# Altium schematic symbol library CONN_jk.SchLib: 44 symbols
Pins are listed as number, name and electrical type; pins without a type are passive.

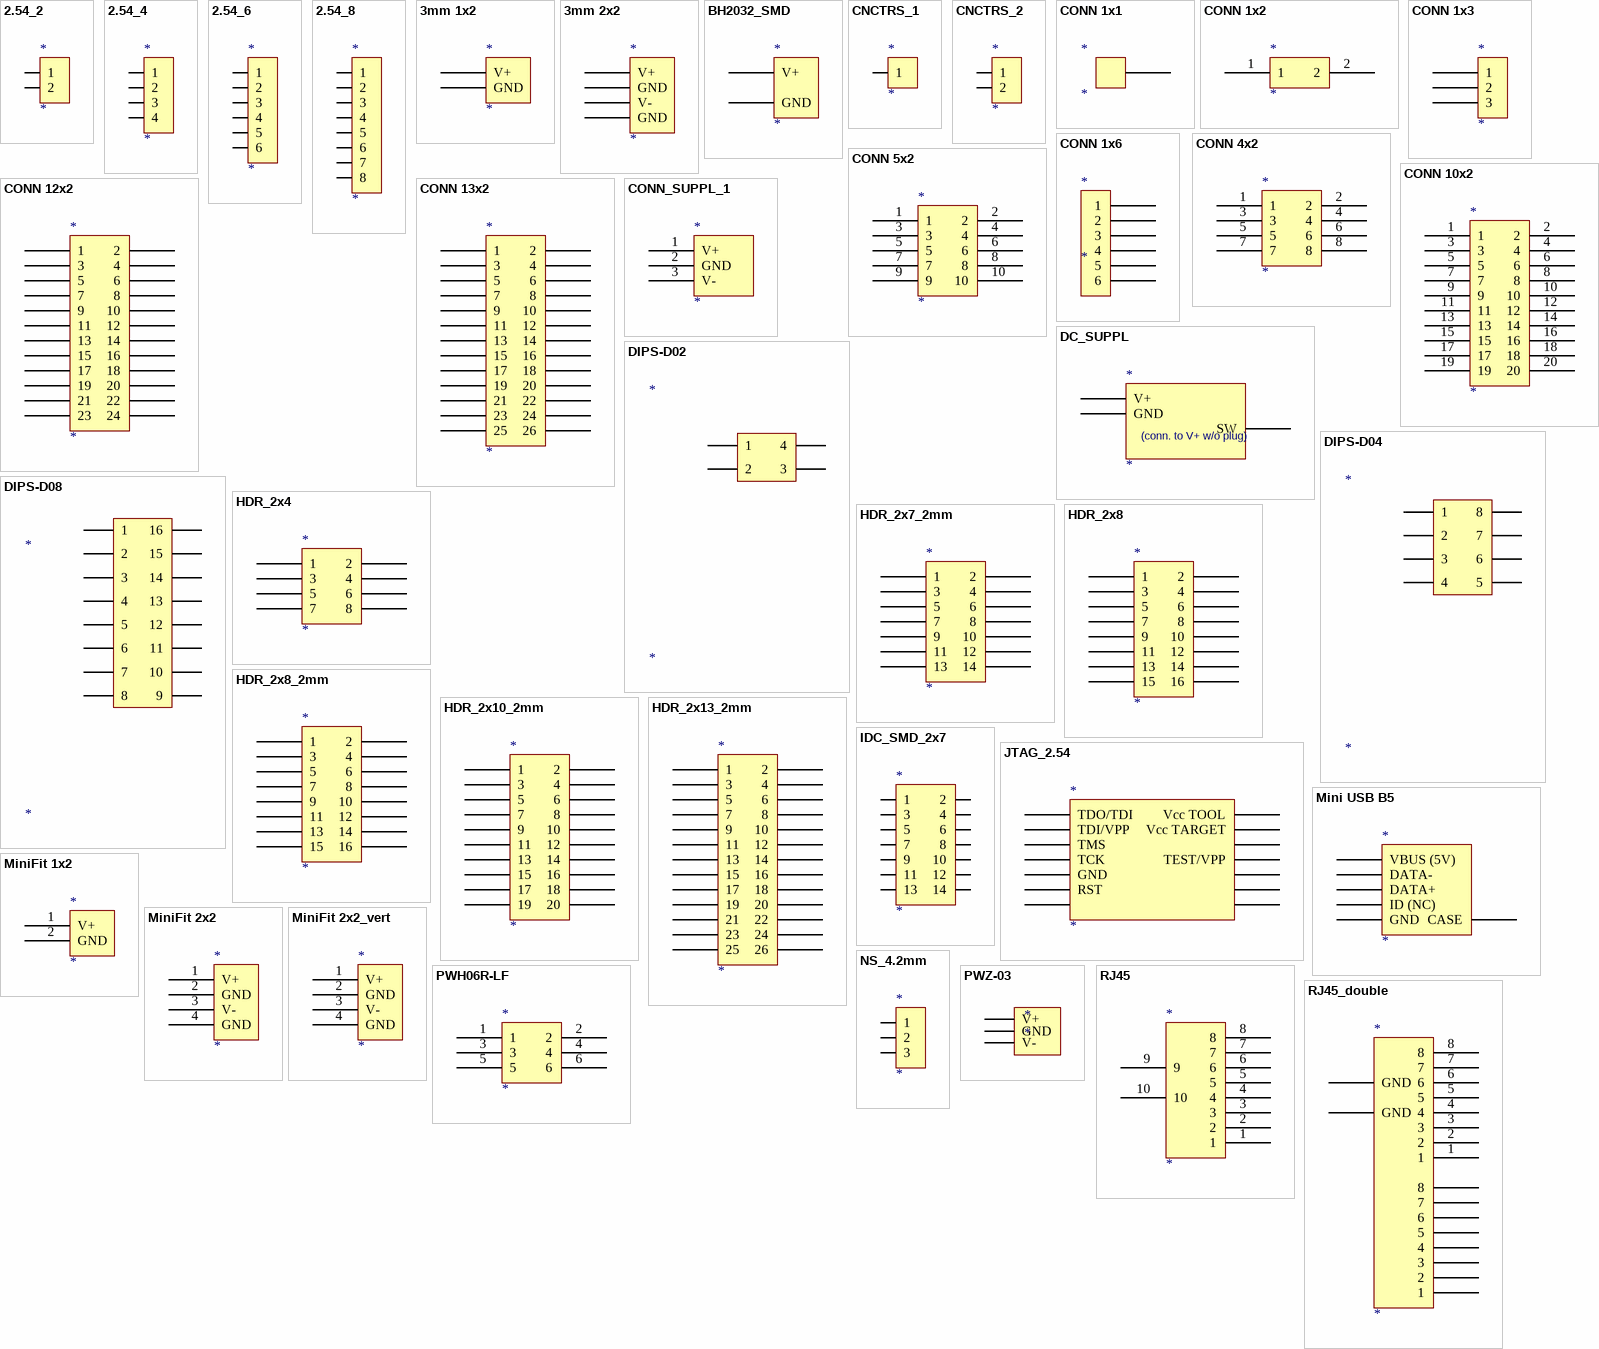
[diagram p0: symbols 2.54_2 to RJ45_double]

## 2.54_2
designator *
footprint 2.54_H2
footprint 2.54_V2
pins: 1, 2

## 2.54_4
designator *
footprint 2.54_H4
footprint 2.54_V4
pins: 1, 2, 3, 4

## 2.54_6
designator *
footprint 2.54_H6
footprint 2.54_V6
pins: 1, 2, 3, 4, 5, 6

## 2.54_8
designator *
footprint 2.54_H8
footprint 2.54_V8
pins: 1, 2, 3, 4, 5, 6, 7, 8

## 3mm 1x2
designator *
footprint 3mm_1x2
pins: GND, V+

## 3mm 2x2
designator *
footprint 3mm_2x2
pins: GND, GND, V+, V-

## BH2032_SMD
designator *
footprint BH_2032
pins: 1 V+, 2 GND

## CNCTRS_1
designator *
footprint CNC_V1
pins: 1

## CNCTRS_2
designator *
footprint CNC_H2
footprint CNC_V2
pins: 1, 2

## CONN 1x1
designator *
footprint HDR1x1
pins: 1

## CONN 1x2
designator *
footprint HDR1x2
pins: 1, 2

## CONN 1x3
designator *
footprint HDR3x1
pins: 1, 2, 3

## CONN 1x6
designator *
footprint HDR1x6
pins: 1, 2, 3, 4, 5, 6

## CONN 4x2
designator *
footprint HDR4x2
pins: 1, 2, 3, 4, 5, 6, 7, 8

## CONN 5x2
designator *
footprint HDR5x2
pins: 1, 2, 3, 4, 5, 6, 7, 8, 9, 10

## CONN 10x2
designator *
footprint HDR10x2
pins: 1, 2, 3, 4, 5, 6, 7, 8, 9, 10, 11, 12, 13, 14, 15, 16, 17, 18, 19, 20

## CONN 12x2
designator *
footprint HDR12x2
pins: 1, 2, 3, 4, 5, 6, 7, 8, 9, 10, 11, 12, 13, 14, 15, 16, 17, 18, 19, 20, 21, 22, 23, 24

## CONN 13x2
designator *
footprint HDR13x2
pins: 1, 2, 3, 4, 5, 6, 7, 8, 9, 10, 11, 12, 13, 14, 15, 16, 17, 18, 19, 20, 21, 22, 23, 24, 25, 26

## CONN_SUPPL_1
designator *
footprint CONN_SUPPL
pins: 1 V+, 2 GND, 3 V-

## DC_SUPPL
designator *
footprint DC_CONN
pins: GND, SW, V+
text: (conn. to V+ w/o plug)

## DIPS-D02
designator *
footprint DIPS-02
pins: 1, 2, 3, 4

## DIPS-D04
designator *
footprint DIPS-04
footprint DIPS-D04-SMD
pins: 1, 2, 3, 4, 5, 6, 7, 8

## DIPS-D08
designator *
footprint DIPS-08
footprint DIPS-D08-SMD
pins: 1, 2, 3, 4, 5, 6, 7, 8, 9, 10, 11, 12, 13, 14, 15, 16

## HDR_2x4
designator *
footprint HDR4x2
footprint HDR4x2 -W
pins: 1, 2, 3, 4, 5, 6, 7, 8

## HDR_2x7_2mm
designator *
footprint HDR2x7_2mm
pins: 1, 2, 3, 4, 5, 6, 7, 8, 9, 10, 11, 12, 13, 14

## HDR_2x8
designator *
footprint HDR8x2
pins: 1, 2, 3, 4, 5, 6, 7, 8, 9, 10, 11, 12, 13, 14, 15, 16

## HDR_2x8_2mm
designator *
footprint HDR2x8_2mm
pins: 1, 2, 3, 4, 5, 6, 7, 8, 9, 10, 11, 12, 13, 14, 15, 16

## HDR_2x10_2mm
designator *
footprint HDR2x10_2mm
pins: 1, 2, 3, 4, 5, 6, 7, 8, 9, 10, 11, 12, 13, 14, 15, 16, 17, 18, 19, 20

## HDR_2x13_2mm
designator *
footprint HDR2x13_2mm
pins: 1, 2, 3, 4, 5, 6, 7, 8, 9, 10, 11, 12, 13, 14, 15, 16, 17, 18, 19, 20, 21, 22, 23, 24, 25, 26

## IDC_SMD_2x7
designator *
footprint IDC_SMD_14
pins: 1, 2, 3, 4, 5, 6, 7, 8, 9, 10, 11, 12, 13, 14

## JTAG_2.54
designator *
footprint HDR2x7_2mm
footprint 2.54_2x7_SMD
pins: 1 TDO/TDI, 2 Vcc TOOL, 3 TDI/VPP, 4 Vcc TARGET, 5 TMS, 6, 7 TCK, 8 TEST/VPP, 9 GND, 10, 11 RST, 12, 13, 14

## Mini USB B5
designator *
footprint USBMS1B5-CV
pins: 1 VBUS (5V), 2 DATA-, 3 DATA+, 4 ID (NC), 5 GND, 6 CASE

## MiniFit 1x2
designator *
footprint MINIFIT_1x2
pins: 1 V+, 2 GND

## MiniFit 2x2
designator *
footprint MINIFIT_2x2
pins: 1 V+, 2 GND, 3 V-, 4 GND

## MiniFit 2x2_vert
designator *
footprint MINIFIT_2x2_vert
pins: 1 V+, 2 GND, 3 V-, 4 GND

## NS_4.2mm
designator *
footprint NS_4.2mm_H3
footprint NS_4.2mm_V3
pins: 1, 2, 3

## PWH06R-LF
designator *
footprint PWH06R-LF
pins: 1, 2, 3, 4, 5, 6

## PWZ-03
designator *
footprint PWZ-03
footprint PWZ-03
pins: 1 V+, 2 GND, 3 V-

## RJ45
designator *
footprint RJ45_SMD
footprint RJ45 - STD
footprint RJ45 EKR
pins: 1, 2, 3, 4, 5, 6, 7, 8, 9, 10

## RJ45_double
designator *
footprint RJ45
pins: 1, 2, 3, 4, 5, 6, 7, 8, 9 1, 10 2, 11 3, 12 4, 13 5, 14 6, 15 7, 16 8, GND, GND

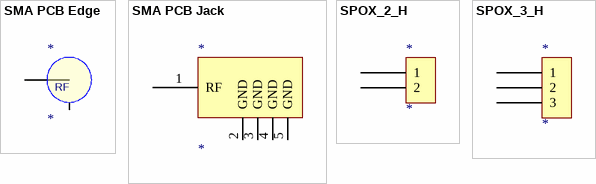
[diagram p1: symbols SMA PCB Edge to SPOX_3_H]

## SMA PCB Edge
designator *
SMA PCB Edge Receptacle
footprint SMA PCB Edge
footprint SMA PCB Jack
pins: 1 RF, 2

## SMA PCB Jack
designator *
SMA PCB Jack Receptacle (Amphenol)
footprint SMA PCB Jack
pins: 1 RF, 2 GND, 3 GND, 4 GND, 5 GND

## SPOX_2_H
designator *
footprint SPOX_2
pins: 1, 2

## SPOX_3_H
designator *
footprint SPOX_3
pins: 1, 2, 3